# EAGLE library part SY88022AL (library yapo)
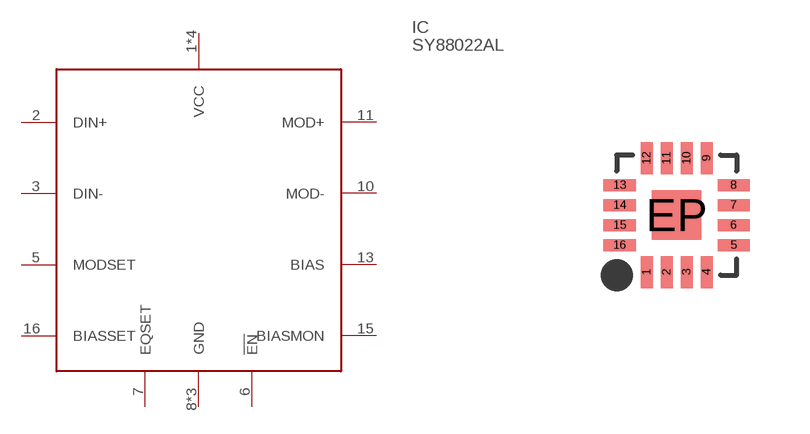
[diagram p53: symbol with the pads of TQFN16-EP; footprint TQFN16-EP]

Designator prefix IC

## SY88022AL  [TQFN16-EP]
1  VCC
2  DIN+
3  DIN-
4  VCC
5  MODSET
6  !EN!
7  EQSET
8  GND
9  VCC
10  MOD-
11  MOD+
12  VCC
13  BIAS
14  GND
15  BIASMON
16  BIASSET
EP  GND

## Footprint TQFN16-EP (pad centres in mm)
smd 0.3 x 0.8: 1 -0.75,-1.425; 2 -0.25,-1.425; 3 0.25,-1.425; 4 0.75,-1.425; 9 0.75,1.425; 10 0.25,1.425; 11 -0.25,1.425; 12 -0.75,1.425
smd 0.8 x 0.3: 5 1.425,-0.75; 6 1.425,-0.25; 7 1.425,0.25; 8 1.425,0.75; 13 -1.425,0.75; 14 -1.425,0.25; 15 -1.425,-0.25; 16 -1.425,-0.75
smd 1.23 x 1.23: EP 0,0